# Altium footprint library SX126xMB2xAS_e588v01a.PcbLib: 48 footprints (part 1 of 3)
Each footprint in its own frame and in the unit in brackets; x right, y up, seen from the top. Pads: shape width x height; smd on the part's side, far side on the other; paste and mask are expansions set on the pad; w line width, h text height; cw(c..) or ccw(c..) is an arc to the next point about the centre after c.
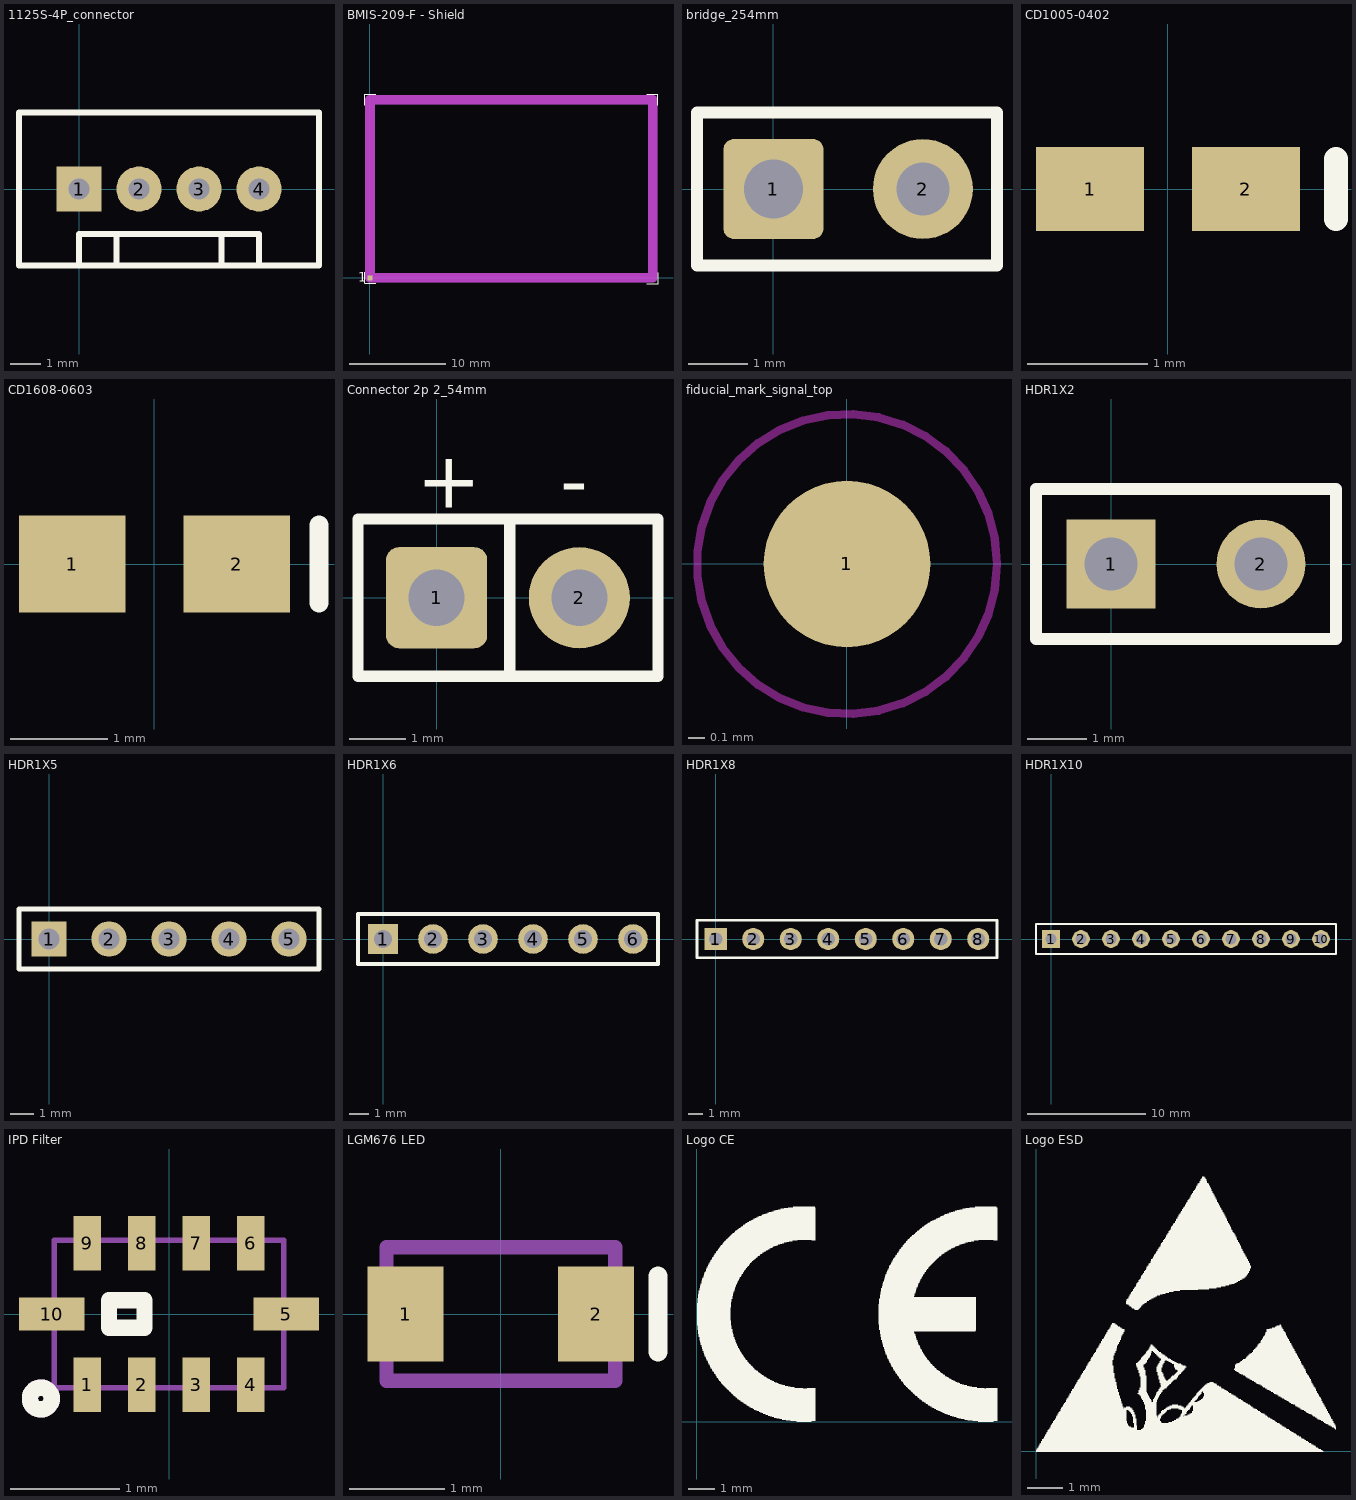
[diagram p0: the footprints below, top view; thin cyan lines are the x and y axes]

## 1125S-4P_connector [mm] "Connector; Header; 4 Position; P/N: 1125S-4P; Manuf: TAIFENG"
pads (4):
  rect 1.5x1.5 hole 0.7 mask+0.05: 1(0,0)
  round 1.5 hole 0.7 mask+0.05: 2(2,0) 3(4,0) 4(6,0)
Top Overlay:
  lines w0.2: 0,-2.55 0,-1.5 6,-1.5 6,-2.55 ; 1.25,-2.55 1.25,-1.5 ; 4.75,-2.55 4.75,-1.5 ; -2,-2.55 -2,2.55 8,2.55 8,-2.55 -2,-2.55
3D body: height 2.95, standoff 0, extent -2,-2.55 8,2.55

## BMIS-209-F - Shield [mm] "BMIS-209-F EMI Gasket - modif SolderMask - Standard Surface Mount Shields -  Laird Technologies"
height 6.5
pads (1):
  rect 0.5x0.5 smd paste-1 mask+0.05: 1(0,0)
Top Overlay:
  lines w0.1: -0.55,0.6 -0.55,-0.55 0.6,-0.55 ; -0.55,18 -0.55,19.15 0.6,19.15 ; 28.9,-0.6 30.05,-0.6 30.05,0.55 ; 28.9,19.15 30.05,19.15 30.05,18
  text "1" at -1.25,-0.4 h1
Top Paste:
  region: 4.35,0.6 4.35,-0.4 -0.4,-0.4 -0.4,0.6
  region: 7.1,0.6 10.3,0.6 10.3,-0.4 7.1,-0.4
  region: 13.1,0.6 16.35,0.6 16.35,-0.4 13.1,-0.4
  region: 19.1,0.6 22.3,0.6 22.3,-0.4 19.1,-0.4
  region: 25.1,0.55 29.9,0.55 29.9,-0.45 25.1,-0.45
  region: -0.4,4.6 0.6,4.6 0.6,-0.4 -0.4,-0.4
  region: -0.4,10.9 0.6,10.9 0.6,7.7 -0.4,7.7
  region: -0.4,13.7 -0.4,19 0.6,19 0.6,13.7
  region: 28.9,13.65 28.9,18.95 29.9,18.95 29.9,13.65
  region: 28.9,10.85 29.9,10.85 29.9,7.65 28.9,7.65
  region: 28.9,4.85 29.9,4.85 29.9,-0.45 28.9,-0.45
  region: 25.1,19 29.9,19 29.9,18 25.1,18
  region: 19.1,19 22.3,19 22.3,18 19.1,18
  region: 13.1,19 16.35,19 16.35,18 13.1,18
  region: 7.1,19 10.3,19 10.3,18 7.1,18
  region: 4.35,19 4.35,18 -0.4,18 -0.4,19
Top Solder:
  region: 4.35,18 -0.4,18 -0.4,19 4.35,19
  region: 10.3,18 7.1,18 7.1,19 10.3,19
  region: 16.35,18 13.1,18 13.1,19 16.35,19
  region: 29.9,18 25.1,18 25.1,19 29.9,19
  region: 22.3,18 19.1,18 19.1,19 22.3,19
  region: 22.3,-0.4 19.1,-0.4 19.1,0.6 22.3,0.6
  region: 29.9,-0.45 25.1,-0.45 25.1,0.55 29.9,0.55
  region: 16.35,-0.4 13.1,-0.4 13.1,0.6 16.35,0.6
  region: 10.3,-0.4 7.1,-0.4 7.1,0.6 10.3,0.6
  region: 4.35,-0.4 -0.4,-0.4 -0.4,0.6 4.35,0.6
  region: -0.4,13.7 -0.4,19 0.6,19 0.6,13.7
  region: -0.4,7.7 -0.4,10.9 0.6,10.9 0.6,7.7
  region: -0.4,-0.4 -0.4,4.6 0.6,4.6 0.6,-0.4
  region: 28.9,-0.45 28.9,4.85 29.9,4.85 29.9,-0.45
  region: 28.9,7.65 28.9,10.85 29.9,10.85 29.9,7.65
  region: 28.9,13.65 28.9,18.95 29.9,18.95 29.9,13.65
Mechanical 15 keep-out:
  lines w1: 0,0 0,18.6 29.5,18.6 29.5,0 0,0
3D body: height 0.8, standoff 0.2, extent -0.3,-0.3 0.3,0.3

## bridge_254mm [mm] "Generic Bridge 2.54mm, 2 Leads 0.9mm;"
height 1
pads (2):
  rrect20% 1.7x1.7 hole 1 paste+0 mask+0.05: 1(0,0)
  round 1.7 hole 0.9 paste+0 mask+0.05: 2(2.54,0)
Top Overlay:
  lines w0.2: -1.3,-1.3 3.8,-1.3 3.8,1.3 -1.3,1.3 -1.3,-1.3

## CD1005-0402 [mm] "Chip Diode; Body 1.0 x 0.5 mm (LxW typ)"
height 0.6
pads (2):
  rect 0.9x0.7 smd mask+0.05: 1(-0.65,0) 2(0.65,0)
Top Overlay:
  lines w0.2: 1.4,-0.25 1.4,0.25

## CD1608-0603 [mm] "Chip Diode; Body 1.6 x 0.8 mm (LxW typ)"
height 0.85
pads (2):
  rect 1.1x1 smd mask+0.05: 1(-0.85,0) 2(0.85,0)
Top Overlay:
  lines w0.2: 1.7,-0.4 1.7,0.4

## Connector 2p 2_54mm [mm] "Generic connector 2.54mm, 2 Leads 1mm;"
height 1
pads (2):
  rrect25% 1.8x1.8 hole 1 paste+0 mask+0.05: 1(0,0)
  round 1.8 hole 1 paste+0 mask+0.05: 2(2.54,0)
Top Overlay:
  lines w0.2: 1.3,-1.4 1.3,1.4 ; -1.4,-1.4 3.94,-1.4 3.94,1.4 -1.4,1.4 -1.4,-1.4
  text "+" at -0.35,1.6 h1
  text "-" at 2.2,1.6 h1

## fiducial_mark_signal_top [mm] "Fiducial mark for automatic assembly"
height 1
pads (1):
  round 1 smd paste-2 mask+0.5: 1(0,0)
Top Layer keep-out:
  circle w0.05: c0,0 r0.9

## HDR1X2 [mm] "Connector; Header; 2 Position"
pads (2):
  rect 1.5x1.5 hole 0.9: 1(0,0)
  round 1.5 hole 0.9: 2(2.54,0)
Top Overlay:
  lines w0.2: -1.27,-1.27 -1.27,1.27 3.81,1.27 3.81,-1.27 -1.27,-1.27

## HDR1X5 [mm] "Connector; Header; 5 Position"
pads (5):
  rect 1.5x1.5 hole 0.9: 1(0,0)
  round 1.5 hole 0.9: 2(2.54,0) 3(5.08,0) 4(7.62,0) 5(10.16,0)
Top Overlay:
  lines w0.2: -1.27,-1.27 -1.27,1.27 11.43,1.27 11.43,-1.27 -1.27,-1.27

## HDR1X6 [mm] "Connector; Header; 6 Position"
pads (6):
  rect 1.5x1.5 hole 0.9: 1(0,0)
  round 1.5 hole 0.9: 2(2.54,0) 3(5.08,0) 4(7.62,0) 5(10.16,0) 6(12.7,0)
Top Overlay:
  lines w0.2: -1.27,-1.27 13.97,-1.27 13.97,1.27 -1.27,1.27 -1.27,-1.27

## HDR1X8 [mm] "Connector; Header; 8 Position"
pads (8):
  rect 1.5x1.5 hole 0.9: 1(0,0)
  round 1.5 hole 0.9: 2(2.54,0) 3(5.08,0) 4(7.62,0) 5(10.16,0) 6(12.7,0) 7(15.24,0) 8(17.78,0)
Top Overlay:
  lines w0.2: -1.27,-1.27 -1.27,1.27 19.05,1.27 19.05,-1.27 -1.27,-1.27

## HDR1X10 [mm] "Connector; Header; 10 Position"
pads (10):
  rect 1.5x1.5 hole 0.9: 1(0,0)
  round 1.5 hole 0.9: 2(2.54,0) 3(5.08,0) 4(7.62,0) 5(10.16,0) 6(12.7,0) 7(15.24,0) 8(17.78,0) 9(20.32,0) 10(22.86,0)
Top Overlay:
  lines w0.2: -1.27,-1.27 -1.27,1.27 0.635,1.27 24.13,1.27 24.13,-1.27 -1.27,-1.27

## IPD Filter [mm] "IPD Filter; Johanson; Body 2.00 x 1.25 mm (LxW max)"
height 0.5
pads (10):
  rect 0.25x0.5 smd mask+0.025: 1(-0.75,-0.65) 2(-0.25,-0.65) 3(0.25,-0.65) 4(0.75,-0.65) 6(0.75,0.65) 7(0.25,0.65) 8(-0.25,0.65) 9(-0.75,0.65)
  rect 0.6x0.3 smd mask+0.025: 5(1.075,0) 10(-1.075,0)
Top Overlay:
  circle w0.15: c-1.175,-0.775 r0.1
  lines w0.15: -0.55,-0.125 -0.225,-0.125 -0.225,0.125 -0.55,0.125 -0.55,-0.125
Mechanical 15:
  circle w0.15: c-1.175,-0.775 r0.1
  lines w0.05: -1.05,-0.675 0.05,-0.675 1.05,-0.675 1.05,0.675 -1.05,0.675 -1.05,-0.675
3D body: height 0.6, standoff 0.05, extent -1,-0.625 1,0.625

## LGM676 LED [mm] "Chip Diode; Body 2.1 x 1.4 mm (LxW typ)"
height 1.1
pads (2):
  rect 0.8x1 smd mask+0.05: 1(-1,0) 2(1,0)
Top Overlay:
  lines w0.2: 1.65,-0.4 1.65,0.4
Mechanical 15:
  lines w0.15: -1.2,-0.7 1.2,-0.7 1.2,0.7 -1.2,0.7 -1.2,-0.7
3D body: height 12, standoff 0, extent -1.2,-0.7 1.2,0.7

## Logo CE [mm] "Logo CE"
height 0.1
Top Overlay:
  drawing of 654 lines, arcs and shapes, not listed

## Logo ESD [mm] "Logo ESD"
height 0.1
Top Overlay:
  drawing of 682 lines, arcs and shapes, not listed